# EAGLE library part IRS20957SPBF (library International_Rectifier_By_element14_Batch_1)
Protected Digital Audio Driver
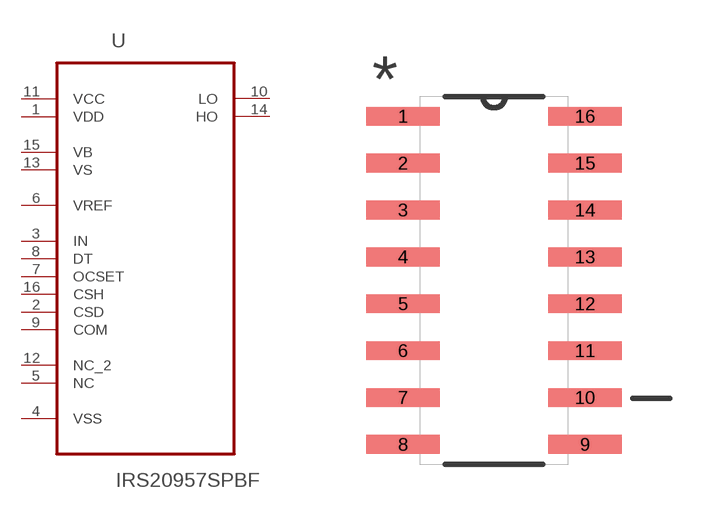
[diagram p92: symbol with the pads of SOIC127P600X175-16N; footprint SOIC127P600X175-16N]

Designator prefix U

## IRS20957SPBF (MPN: IRS20957SPBF; OC_FARNELL: 1695906; OC_NEWARK: 51P1630; PACKAGE: SOIC-16; SUPPLIER: International Rectifier)  [SOIC127P600X175-16N]
1  VDD  pwr
2  CSD  in
3  IN  in
4  VSS  pwr
5  NC  nc
6  VREF  pas
7  OCSET  pas
8  DT  in
9  COM  pas
10  LO  out
11  VCC  pwr
12  NC_2  nc
13  VS  pwr
14  HO  out
15  VB  pwr
16  CSH  in

## Footprint SOIC127P600X175-16N (pad centres in mm)
smd 1.981 x 0.508: 1 -2.464,4.445; 2 -2.464,3.175; 3 -2.464,1.905; 4 -2.464,0.635; 5 -2.464,-0.635; 6 -2.464,-1.905; 7 -2.464,-3.175; 8 -2.464,-4.445; 9 2.464,-4.445; 10 2.464,-3.175; 11 2.464,-1.905; 12 2.464,-0.635; 13 2.464,0.635; 14 2.464,1.905; 15 2.464,3.175; 16 2.464,4.445